# Altium footprint library 160901137.PcbLib: 3 footprints
Each footprint in its own frame and in the unit in brackets; x right, y up, seen from the top. Pads: shape width x height; smd on the part's side, far side on the other; paste and mask are expansions set on the pad; w line width, h text height; cw(c..) or ccw(c..) is an arc to the next point about the centre after c.
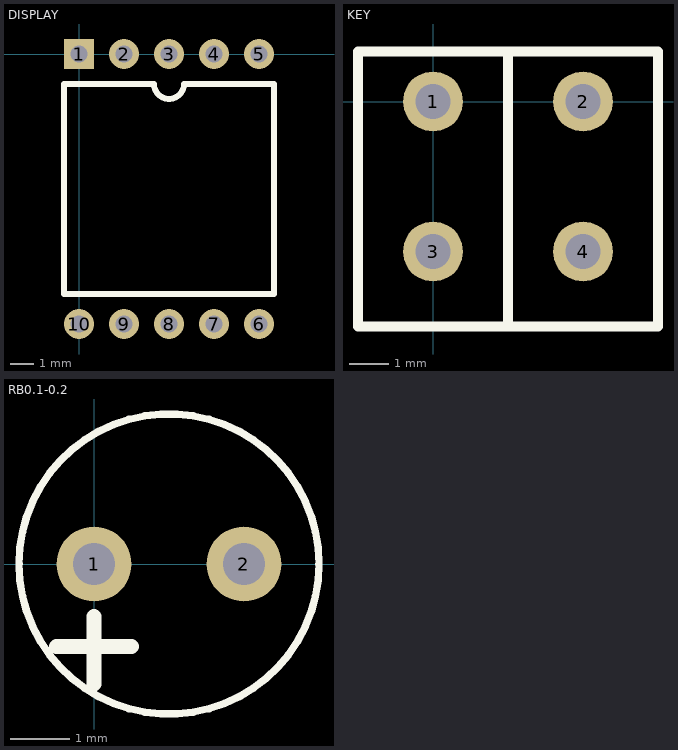
[diagram p0: the footprints below, top view; thin cyan lines are the x and y axes]

## DISPLAY [mil]
pads (10):
  rect 50x50 hole 28: 1(0,0)
  round 50 hole 28: 2(75,0) 3(150,0) 4(225,0) 5(300,0) 6(300,-450) 7(225,-450) 8(150,-450) 9(75,-450) 10(0,-450)
Top Overlay:
  lines w10: -25,-400 325,-400 325,-50 175,-50 cw(c150,-50) 125,-50 -25,-50 -25,-400

## KEY [mil]
pads (4):
  round 60 hole 35: 1(0,0) 2(150,0) 3(0,-150) 4(150,-150)
Top Overlay:
  lines w10: 75,-225 75,50 ; -75,-225 -75,50 225,50 225,-225 -75,-225

## RB0.1-0.2 [mil]
pads (2):
  round 50 hole 28: 1(0,0) 2(100,0)
Top Overlay:
  circle w5: c50,0 r100
  lines w10: -25,-55 25,-55 ; 0,-80 0,-35